# EAGLE library part HDI-160M (library con-amp)
AMP connector
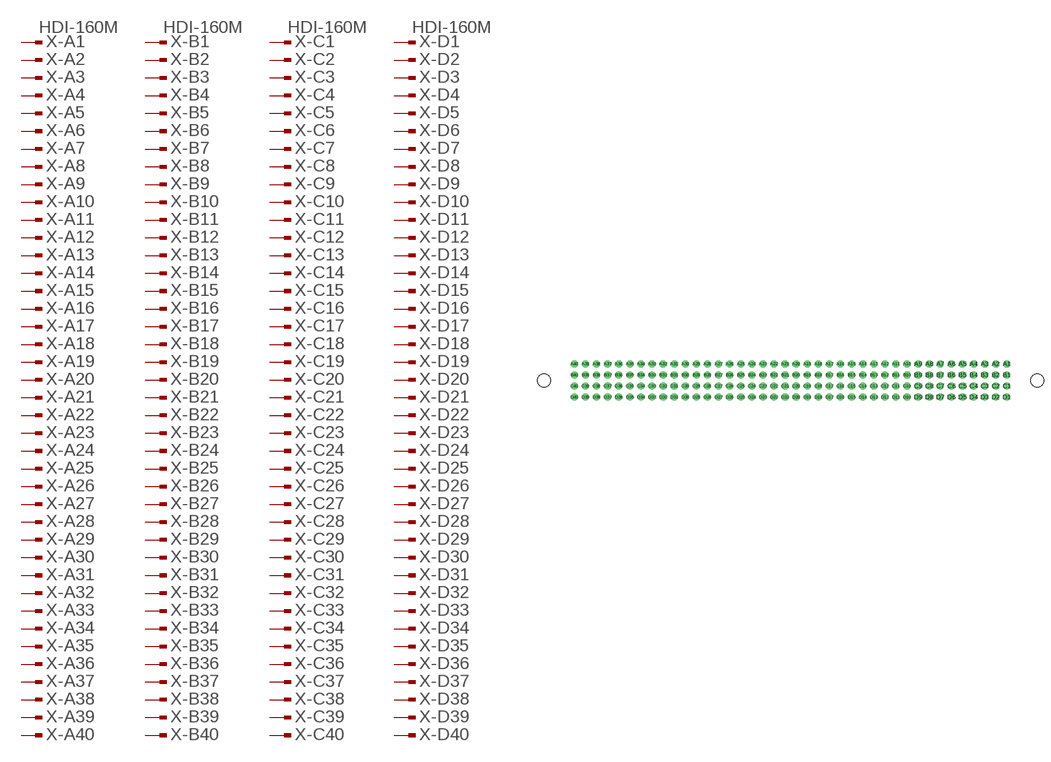
[diagram p127: symbol with the pads of HDI-160M; footprint HDI-160M]

Designator prefix X; gates -A1=PIN-MV -A2=PIN-M -A3=PIN-M -A4=PIN-M -A5=PIN-M -A6=PIN-M -A7=PIN-M -A8=PIN-M -A9=PIN-M -A10=PIN-M -A11=PIN-M -A12=PIN-M -A13=PIN-M -A14=PIN-M -A15=PIN-M -A16=PIN-M -A17=PIN-M -A18=PIN-M -A19=PIN-M -A20=PIN-M -A21=PIN-M -A22=PIN-M -A23=PIN-M -A24=PIN-M -A25=PIN-M -A26=PIN-M -A27=PIN-M -A28=PIN-M -A29=PIN-M -A30=PIN-M -A31=PIN-M -A32=PIN-M -A33=PIN-M -A34=PIN-M -A35=PIN-M -A36=PIN-M -A37=PIN-M -A38=PIN-M -A39=PIN-M -A40=PIN-M -B1=PIN-MV -B2=PIN-M -B3=PIN-M -B4=PIN-M -B5=PIN-M -B6=PIN-M -B7=PIN-M -B8=PIN-M -B9=PIN-M -B10=PIN-M -B11=PIN-M -B12=PIN-M -B13=PIN-M -B14=PIN-M -B15=PIN-M -B16=PIN-M -B17=PIN-M -B18=PIN-M -B19=PIN-M -B20=PIN-M -B21=PIN-M -B22=PIN-M -B23=PIN-M -B24=PIN-M -B25=PIN-M -B26=PIN-M -B27=PIN-M -B28=PIN-M -B29=PIN-M -B30=PIN-M -B31=PIN-M -B32=PIN-M -B33=PIN-M -B34=PIN-M -B35=PIN-M -B36=PIN-M -B37=PIN-M -B38=PIN-M -B39=PIN-M -B40=PIN-M -C1=PIN-MV -C2=PIN-M -C3=PIN-M -C4=PIN-M -C5=PIN-M -C6=PIN-M -C7=PIN-M -C8=PIN-M -C9=PIN-M -C10=PIN-M -C11=PIN-M -C12=PIN-M -C13=PIN-M -C14=PIN-M -C15=PIN-M -C16=PIN-M -C17=PIN-M -C18=PIN-M -C19=PIN-M -C20=PIN-M -C21=PIN-M -C22=PIN-M -C23=PIN-M -C24=PIN-M -C25=PIN-M -C26=PIN-M -C27=PIN-M -C28=PIN-M -C29=PIN-M -C30=PIN-M -C31=PIN-M -C32=PIN-M -C33=PIN-M -C34=PIN-M -C35=PIN-M -C36=PIN-M -C37=PIN-M -C38=PIN-M -C39=PIN-M -C40=PIN-M -D1=PIN-MV -D2=PIN-M -D3=PIN-M -D4=PIN-M -D5=PIN-M -D6=PIN-M -D7=PIN-M -D8=PIN-M -D9=PIN-M -D10=PIN-M -D11=PIN-M -D12=PIN-M -D13=PIN-M -D14=PIN-M -D15=PIN-M -D16=PIN-M -D17=PIN-M -D18=PIN-M -D19=PIN-M -D20=PIN-M -D21=PIN-M -D22=PIN-M -D23=PIN-M -D24=PIN-M -D25=PIN-M -D26=PIN-M -D27=PIN-M -D28=PIN-M -D29=PIN-M -D30=PIN-M -D31=PIN-M -D32=PIN-M -D33=PIN-M -D34=PIN-M -D35=PIN-M -D36=PIN-M -D37=PIN-M -D38=PIN-M -D39=PIN-M -D40=PIN-M

## HDI-160M  [HDI-160M]
A1  -A1:1  pas
A2  -A2:1  pas
A3  -A3:1  pas
A4  -A4:1  pas
A5  -A5:1  pas
A6  -A6:1  pas
A7  -A7:1  pas
A8  -A8:1  pas
A9  -A9:1  pas
A10  -A10:1  pas
A11  -A11:1  pas
A12  -A12:1  pas
A13  -A13:1  pas
A14  -A14:1  pas
A15  -A15:1  pas
A16  -A16:1  pas
A17  -A17:1  pas
A18  -A18:1  pas
A19  -A19:1  pas
A20  -A20:1  pas
A21  -A21:1  pas
A22  -A22:1  pas
A23  -A23:1  pas
A24  -A24:1  pas
A25  -A25:1  pas
A26  -A26:1  pas
A27  -A27:1  pas
A28  -A28:1  pas
A29  -A29:1  pas
A30  -A30:1  pas
A31  -A31:1  pas
A32  -A32:1  pas
A33  -A33:1  pas
A34  -A34:1  pas
A35  -A35:1  pas
A36  -A36:1  pas
A37  -A37:1  pas
A38  -A38:1  pas
A39  -A39:1  pas
A40  -A40:1  pas
B1  -B1:1  pas
B2  -B2:1  pas
B3  -B3:1  pas
B4  -B4:1  pas
B5  -B5:1  pas
B6  -B6:1  pas
B7  -B7:1  pas
B8  -B8:1  pas
B9  -B9:1  pas
B10  -B10:1  pas
B11  -B11:1  pas
B12  -B12:1  pas
B13  -B13:1  pas
B14  -B14:1  pas
B15  -B15:1  pas
B16  -B16:1  pas
B17  -B17:1  pas
B18  -B18:1  pas
B19  -B19:1  pas
B20  -B20:1  pas
B21  -B21:1  pas
B22  -B22:1  pas
B23  -B23:1  pas
B24  -B24:1  pas
B25  -B25:1  pas
B26  -B26:1  pas
B27  -B27:1  pas
B28  -B28:1  pas
B29  -B29:1  pas
B30  -B30:1  pas
B31  -B31:1  pas
B32  -B32:1  pas
B33  -B33:1  pas
B34  -B34:1  pas
B35  -B35:1  pas
B36  -B36:1  pas
B37  -B37:1  pas
B38  -B38:1  pas
B39  -B39:1  pas
B40  -B40:1  pas
C1  -C1:1  pas
C2  -C2:1  pas
C3  -C3:1  pas
C4  -C4:1  pas
C5  -C5:1  pas
C6  -C6:1  pas
C7  -C7:1  pas
C8  -C8:1  pas
C9  -C9:1  pas
C10  -C10:1  pas
C11  -C11:1  pas
C12  -C12:1  pas
C13  -C13:1  pas
C14  -C14:1  pas
C15  -C15:1  pas
C16  -C16:1  pas
C17  -C17:1  pas
C18  -C18:1  pas
C19  -C19:1  pas
C20  -C20:1  pas
C21  -C21:1  pas
C22  -C22:1  pas
C23  -C23:1  pas
C24  -C24:1  pas
C25  -C25:1  pas
C26  -C26:1  pas
C27  -C27:1  pas
C28  -C28:1  pas
C29  -C29:1  pas
C30  -C30:1  pas
C31  -C31:1  pas
C32  -C32:1  pas
C33  -C33:1  pas
C34  -C34:1  pas
C35  -C35:1  pas
C36  -C36:1  pas
C37  -C37:1  pas
C38  -C38:1  pas
C39  -C39:1  pas
C40  -C40:1  pas
D1  -D1:1  pas
D2  -D2:1  pas
D3  -D3:1  pas
D4  -D4:1  pas
D5  -D5:1  pas
D6  -D6:1  pas
D7  -D7:1  pas
D8  -D8:1  pas
D9  -D9:1  pas
D10  -D10:1  pas
D11  -D11:1  pas
D12  -D12:1  pas
D13  -D13:1  pas
D14  -D14:1  pas
D15  -D15:1  pas
D16  -D16:1  pas
D17  -D17:1  pas
D18  -D18:1  pas
D19  -D19:1  pas
D20  -D20:1  pas
D21  -D21:1  pas
D22  -D22:1  pas
D23  -D23:1  pas
D24  -D24:1  pas
D25  -D25:1  pas
D26  -D26:1  pas
D27  -D27:1  pas
D28  -D28:1  pas
D29  -D29:1  pas
D30  -D30:1  pas
D31  -D31:1  pas
D32  -D32:1  pas
D33  -D33:1  pas
D34  -D34:1  pas
D35  -D35:1  pas
D36  -D36:1  pas
D37  -D37:1  pas
D38  -D38:1  pas
D39  -D39:1  pas
D40  -D40:1  pas

## Footprint HDI-160M (pad centres in mm)
AMP connector
drill 1.09 octagon: A1 49.53,3.81; A2 46.99,3.81; A3 44.45,3.81; A4 41.91,3.81; A5 39.37,3.81; A6 36.83,3.81; A7 34.29,3.81; A8 31.75,3.81; A9 29.21,3.81; A10 26.67,3.81; A11 24.13,3.81; A12 21.59,3.81; A13 19.05,3.81; A14 16.51,3.81; A15 13.97,3.81; A16 11.43,3.81; A17 8.89,3.81; A18 6.35,3.81; A19 3.81,3.81; A20 1.27,3.81; A21 -1.27,3.81; A22 -3.81,3.81; A23 -6.35,3.81; A24 -8.89,3.81; A25 -11.43,3.81; A26 -13.97,3.81; A27 -16.51,3.81; A28 -19.05,3.81; A29 -21.59,3.81; A30 -24.13,3.81; A31 -26.67,3.81; A32 -29.21,3.81; A33 -31.75,3.81; A34 -34.29,3.81; A35 -36.83,3.81; A36 -39.37,3.81; A37 -41.91,3.81; A38 -44.45,3.81; A39 -46.99,3.81; A40 -49.53,3.81
drill 1.09 round: B1 49.53,1.27; B2 46.99,1.27; B3 44.45,1.27; B4 41.91,1.27; B5 39.37,1.27; B6 36.83,1.27; B7 34.29,1.27; B8 31.75,1.27; B9 29.21,1.27; B10 26.67,1.27; B11 24.13,1.27; B12 21.59,1.27; B13 19.05,1.27; B14 16.51,1.27; B15 13.97,1.27; B16 11.43,1.27; B17 8.89,1.27; B18 6.35,1.27; B19 3.81,1.27; B20 1.27,1.27; B21 -1.27,1.27; B22 -3.81,1.27; B23 -6.35,1.27; B24 -8.89,1.27; B25 -11.43,1.27; B26 -13.97,1.27; B27 -16.51,1.27; B28 -19.05,1.27; B29 -21.59,1.27; B30 -24.13,1.27; B31 -26.67,1.27; B32 -29.21,1.27; B33 -31.75,1.27; B34 -34.29,1.27; B35 -36.83,1.27; B36 -39.37,1.27; B37 -41.91,1.27; B38 -44.45,1.27; B39 -46.99,1.27; B40 -49.53,1.27; C1 49.53,-1.27; C2 46.99,-1.27; C3 44.45,-1.27; C4 41.91,-1.27; C5 39.37,-1.27; C6 36.83,-1.27; C7 34.29,-1.27; C8 31.75,-1.27; C9 29.21,-1.27; C10 26.67,-1.27; C11 24.13,-1.27; C12 21.59,-1.27; C13 19.05,-1.27; C14 16.51,-1.27; C15 13.97,-1.27; C16 11.43,-1.27; C17 8.89,-1.27; C18 6.35,-1.27; C19 3.81,-1.27; C20 1.27,-1.27; C21 -1.27,-1.27; C22 -3.81,-1.27; C23 -6.35,-1.27; C24 -8.89,-1.27; C25 -11.43,-1.27; C26 -13.97,-1.27; C27 -16.51,-1.27; C28 -19.05,-1.27; C29 -21.59,-1.27; C30 -24.13,-1.27; C31 -26.67,-1.27; C32 -29.21,-1.27; C33 -31.75,-1.27; C34 -34.29,-1.27; C35 -36.83,-1.27; C36 -39.37,-1.27; C37 -41.91,-1.27; C38 -44.45,-1.27; C39 -46.99,-1.27; C40 -49.53,-1.27; D1 49.53,-3.81; D2 46.99,-3.81; D3 44.45,-3.81; D4 41.91,-3.81; D5 39.37,-3.81; D6 36.83,-3.81; D7 34.29,-3.81; D8 31.75,-3.81; D9 29.21,-3.81; D10 26.67,-3.81; D11 24.13,-3.81; D12 21.59,-3.81; D13 19.05,-3.81; D14 16.51,-3.81; D15 13.97,-3.81; D16 11.43,-3.81; D17 8.89,-3.81; D18 6.35,-3.81; D19 3.81,-3.81; D20 1.27,-3.81; D21 -1.27,-3.81; D22 -3.81,-3.81; D23 -6.35,-3.81; D24 -8.89,-3.81; D25 -11.43,-3.81; D26 -13.97,-3.81; D27 -16.51,-3.81; D28 -19.05,-3.81; D29 -21.59,-3.81; D30 -24.13,-3.81; D31 -26.67,-3.81; D32 -29.21,-3.81; D33 -31.75,-3.81; D34 -34.29,-3.81; D35 -36.83,-3.81; D36 -39.37,-3.81; D37 -41.91,-3.81; D38 -44.45,-3.81; D39 -46.99,-3.81; D40 -49.53,-3.81
hole 3.05 at -56.51,0
hole 3.05 at 56.51,0